# Altium schematic symbol library KF142R-5.08-3P.Schlib: 1 symbol
Pins are listed as number, name and electrical type; pins without a type are passive.

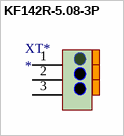
[diagram p0: symbol KF142R-5.08-3P]

## KF142R-5.08-3P
designator XT*
P-5.08mm Spring Clamp System Terminal Block RoHS; ComponentLink1Description: LCSC - Cixi Kefa Elec KF142R-5.08-3P; ComponentLink1URL: https://lcsc.com/product-detail/Spring-Clamp-System-Terminal-Block_Cixi-Kefa-Elec-KF142R-5-08-3P_C475145.html; LCSC Part #: C475145
footprint KF142R-5.08-3P
pins: 1, 2, 3